# Altium schematic symbol library ProjectName_Schematics.SchLib: 1 symbol
Pins are listed as number, name and electrical type; pins without a type are passive.

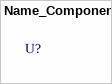
[diagram p0: symbol Name_Component]

## Name_Component
designator U?  (value not drawn)
Description Component; Supplier 2: *